# EAGLE library part CONNECTOR-10 (library marius)
10-pin connectors
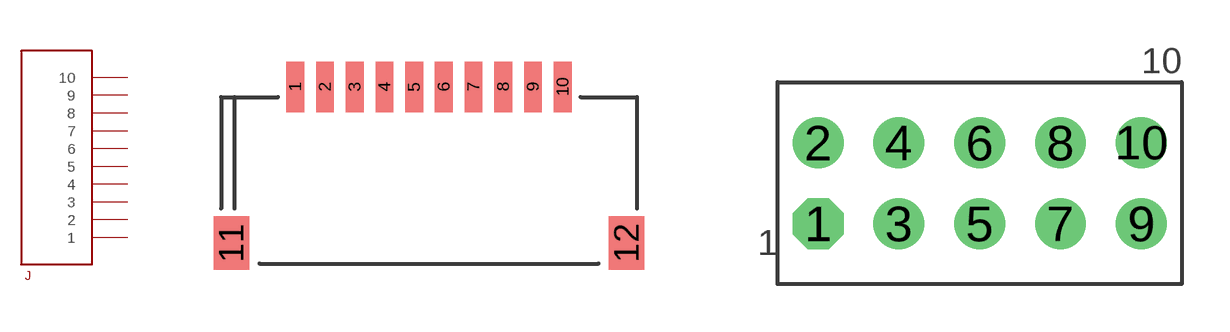
[diagram p3: symbol with the pads of FFC1-84981; footprints FFC1-84981, HEADER-5X2]

Designator prefix J

## CONNECTOR-10FFC10  [FFC1-84981]
1  1
2  2
3  3
4  4
5  5
6  6
7  7
8  8
9  9
10  10

## CONNECTOR-10HEADER-5X2  [HEADER-5X2]
Pads as for FFC1-84981

## CONNECTOR-1052807-1010  [FFC-MOLEX-52807-1010]
P$1  1
P$2  2
P$3  3
P$4  4
P$5  5
P$6  6
P$7  7
P$8  8
P$9  9
P$10  10

## CONNECTOR-10HEADER-10  [HEADER-10]
Pads as for FFC1-84981

## CONNECTOR-10RECEPT-5X2  [RECEPTACLE-5X2]
Pads as for FFC1-84981

## Footprint FFC1-84981 (pad centres in mm)
smd 0.6 x 1.7: 1 -4.5,0; 2 -3.5,0; 3 -2.5,0; 4 -1.5,0; 5 -0.5,0; 6 0.5,0; 7 1.5,0; 8 2.5,0; 9 3.5,0; 10 4.5,0
smd 1.2 x 1.8: 11 -6.65,-5.25; 12 6.65,-5.25

## Footprint HEADER-5X2 (pad centres in mm)
drill 1 pad 1.6 octagon: 1 -5.08,-1.27
drill 1 pad 1.6: 2 -5.08,1.27; 3 -2.54,-1.27; 4 -2.54,1.27; 5 0,-1.27; 6 0,1.27; 7 2.54,-1.27; 8 2.54,1.27; 9 5.08,-1.27; 10 5.08,1.27

## Footprint FFC-MOLEX-52807-1010 (pad centres in mm)
drill 0.8 square: P$1 4.5,0
drill 0.8: P$2 3.5,2; P$3 2.5,0; P$4 1.5,2; P$5 0.5,0; P$6 -0.5,2; P$7 -1.5,0; P$8 -2.5,2; P$9 -3.5,0; P$10 -4.5,2

## Footprint HEADER-10 (pad centres in mm)
5-pin JST PH Shrouded Header 2.0mm pitch P/N B5B-PH-K-S. Mating plug PHR-5
drill 1 pad 1.6 square: 1 0,0
drill 1 pad 1.6: 2 2.54,0; 3 5.08,0; 4 7.62,0; 5 10.16,0; 6 12.7,0; 7 15.24,0; 8 17.78,0; 9 20.32,0; 10 22.86,0

## Footprint RECEPTACLE-5X2 (pad centres in mm)
drill 1 pad 1.6 octagon: 1 -5.08,1.27
drill 1 pad 1.6: 2 -5.08,-1.27; 3 -2.54,1.27; 4 -2.54,-1.27; 5 0,1.27; 6 0,-1.27; 7 2.54,1.27; 8 2.54,-1.27; 9 5.08,1.27; 10 5.08,-1.27